# Altium integrated library Allegro RF and IF Noise Reduction Circuit.IntLib: 2 symbols
Pins are listed as number, name and electrical type; pins without a type are passive.

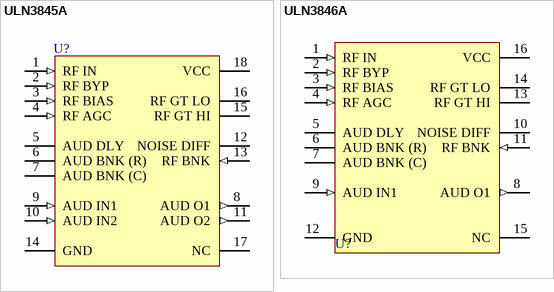
[diagram p0: symbols ULN3845A to ULN3846A]

## ULN3845A
designator U?
AM Stereo Noise Blanker; ComponentAvailability: Obsolete; Published: 13-Oct-2000; LatestRevisionDate: 06-Jun-2005; LatestRevisionNote: Stylized 3D Model Added.; DatasheetVersion: 1995; PackageVersion: 1999; PackageReference: A18; Publisher: Altium Limited; PackageDescription: DIP; 18 Leads; Row Spacing 7.62 mm; Pitch 2.54 mm; ComponentLink1Description: Manufacturer Link; ComponentLink1URL: http://www.allegromicro.com/; ComponentLink2Description: Datasheet; ComponentLink2URL: http://www.allegromicro.com/datafile/archive/3845.pdf
footprint A18 (DIP; 18 Leads; Row Spacing 7.62 mm; Pitch 2.54 mm)
3D model A18 (DIP; 18 Leads; Row Spacing 7.62 mm; Pitch 2.54 mm)
pins: 1 RF IN (in), 2 RF BYP (in), 3 RF BIAS (in), 4 RF AGC (in), 5 AUD DLY, 6 AUD BNK (R), 7 AUD BNK (C), 8 AUD O1 (out), 9 AUD IN1 (in), 10 AUD IN2 (in), 11 AUD O2 (out), 12 NOISE DIFF, 13 RF BNK (in), 14 GND (power), 15 RF GT HI, 16 RF GT LO, 17 NC, 18 VCC (power)

## ULN3846A
designator U?
AM Mono Noise Blanker; ComponentAvailability: Obsolete; Published: 13-Oct-2000; LatestRevisionDate: 06-Jun-2005; LatestRevisionNote: Stylized 3D Model Added.; DatasheetVersion: 1995; PackageVersion: 1998; PackageReference: A16; Publisher: Altium Limited; PackageDescription: DIP; 16 Leads; Row Spacing 7.62 mm; Pitch 2.54 mm; Code_JEDEC: MS-001-BB; ComponentLink1Description: Manufacturer Link; ComponentLink1URL: http://www.allegromicro.com/; ComponentLink2Description: Datasheet; ComponentLink2URL: http://www.allegromicro.com/datafile/archive/3845.pdf
footprint A16 (DIP; 16 Leads; Row Spacing 7.62 mm; Pitch 2.54 mm)
3D model A16 (DIP; 16 Leads; Row Spacing 7.62 mm; Pitch 2.54 mm)
pins: 1 RF IN (in), 2 RF BYP (in), 3 RF BIAS (in), 4 RF AGC (in), 5 AUD DLY, 6 AUD BNK (R), 7 AUD BNK (C), 8 AUD O1 (out), 9 AUD IN1 (in), 10 NOISE DIFF, 11 RF BNK (in), 12 GND (power), 13 RF GT HI, 14 RF GT LO, 15 NC, 16 VCC (power)